# Altium footprint library 5V_to_3V3_LDO.PcbLib: 3 footprints
Each footprint in its own frame and in the unit in brackets; x right, y up, seen from the top. Pads: shape width x height; smd on the part's side, far side on the other; paste and mask are expansions set on the pad; w line width, h text height; cw(c..) or ccw(c..) is an arc to the next point about the centre after c.
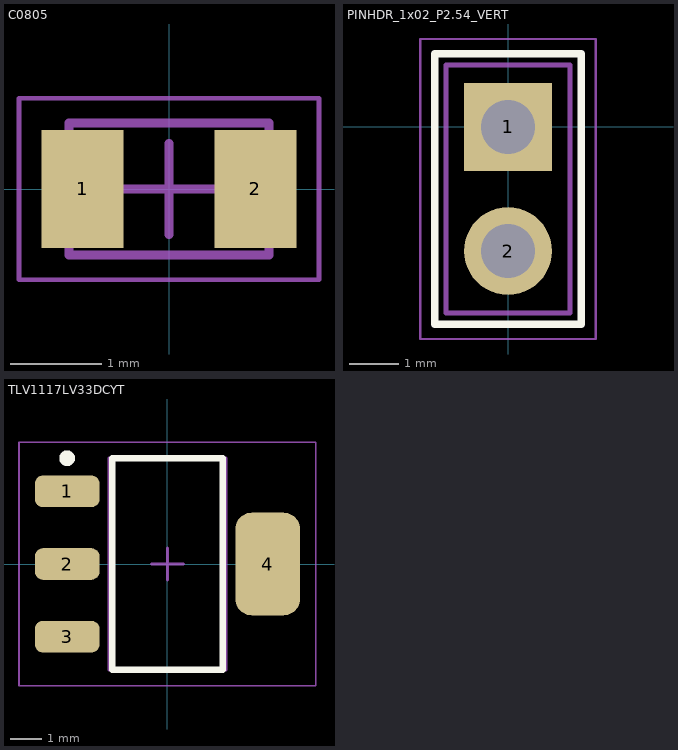
[diagram p0: the footprints below, top view; thin cyan lines are the x and y axes]

## C0805 [mm] "Chip Capacitor, Body 2.0x1.3mm, IPC High Density"
height 1.45
pads (2):
  rect 0.9x1.3 smd: 1(-0.95,0) 2(0.95,0)
Top Assembly:
  lines w0.1: -1.1,-0.725 1.1,-0.725 1.1,0.725 -1.1,0.725 -1.1,-0.725
Top Courtyard:
  lines w0.05: -1.65,-1 1.65,-1 1.65,1 -1.65,1 -1.65,-1
Top Component Center:
  lines w0.1: -0.5,0 0.5,0 ; 0,-0.5 0,0.5
Top Designator:
  text ".Designator" at -2.999,-0.2 h0.6
3D body: height 1.45, standoff 0, extent -1.1,-0.725 1.1,0.725

## PINHDR_1x02_P2.54_VERT [mm]
height 8.54
pads (2):
  rect 1.8x1.8 hole 1.1: 1(0,0)
  round 1.8 hole 1.1: 2(0,-2.54)
Top Overlay:
  lines w0.15: -1.5,-4.04 -1.5,1.5 1.5,1.5 1.5,-4.04 -1.5,-4.04
Top Assembly:
  lines w0.1: -1.27,-3.81 -1.27,1.27 1.27,1.27 1.27,-3.81 -1.27,-3.81
Top Courtyard:
  lines w0.05: -1.8,-4.34 1.8,-4.34 1.8,1.8 -1.8,1.8 -1.8,-4.34
3D body: height 2.54, standoff 0, extent -1.27,-3.81 1.27,1.27
3D body: height 8.54, standoff -3, extent -0.32,-0.32 0.32,0.32
3D body: height 8.54, standoff -3, extent -0.32,-2.86 0.32,-2.22

## TLV1117LV33DCYT [mm] "4-pin SOT-223, package code DCY"
pads (4):
  rrect50% 2.05x1 smd: 1(-3.175,2.3) 2(-3.175,0) 3(-3.175,-2.3)
  rrect50% 2.05x3.25 smd: 4(3.175,0)
Top Overlay:
  circle w0.25: c-3.175,3.35 r0.125
  lines w0.2: -1.75,-3.35 1.75,-3.35 1.75,3.35 -1.75,3.35 -1.75,-3.35
Top Assembly:
  lines w0.1: -1.85,-3.35 -1.85,3.35 1.85,3.35 1.85,-3.35 -1.85,-3.35
Top Courtyard:
  lines w0.05: -4.7,-3.85 4.7,-3.85 4.7,3.85 -4.7,3.85 -4.7,-3.85
Top Component Center:
  lines w0.1: -0.5,0 0.5,0 ; 0,-0.5 0,0.5
Top Designator:
  text ".Designator" at -4.099,-0.633 h0.8
3D body "SOT230P700X180-4N_JEDEC_TO-261AA_SOT223-3.STEP": height 1.8, standoff 0, extent -3.521,-3.25 3.521,3.25